# Altium schematic symbol library kmilo17pet-TI_BattMgmt.SchLib: 950 symbols (part 21 of 60)
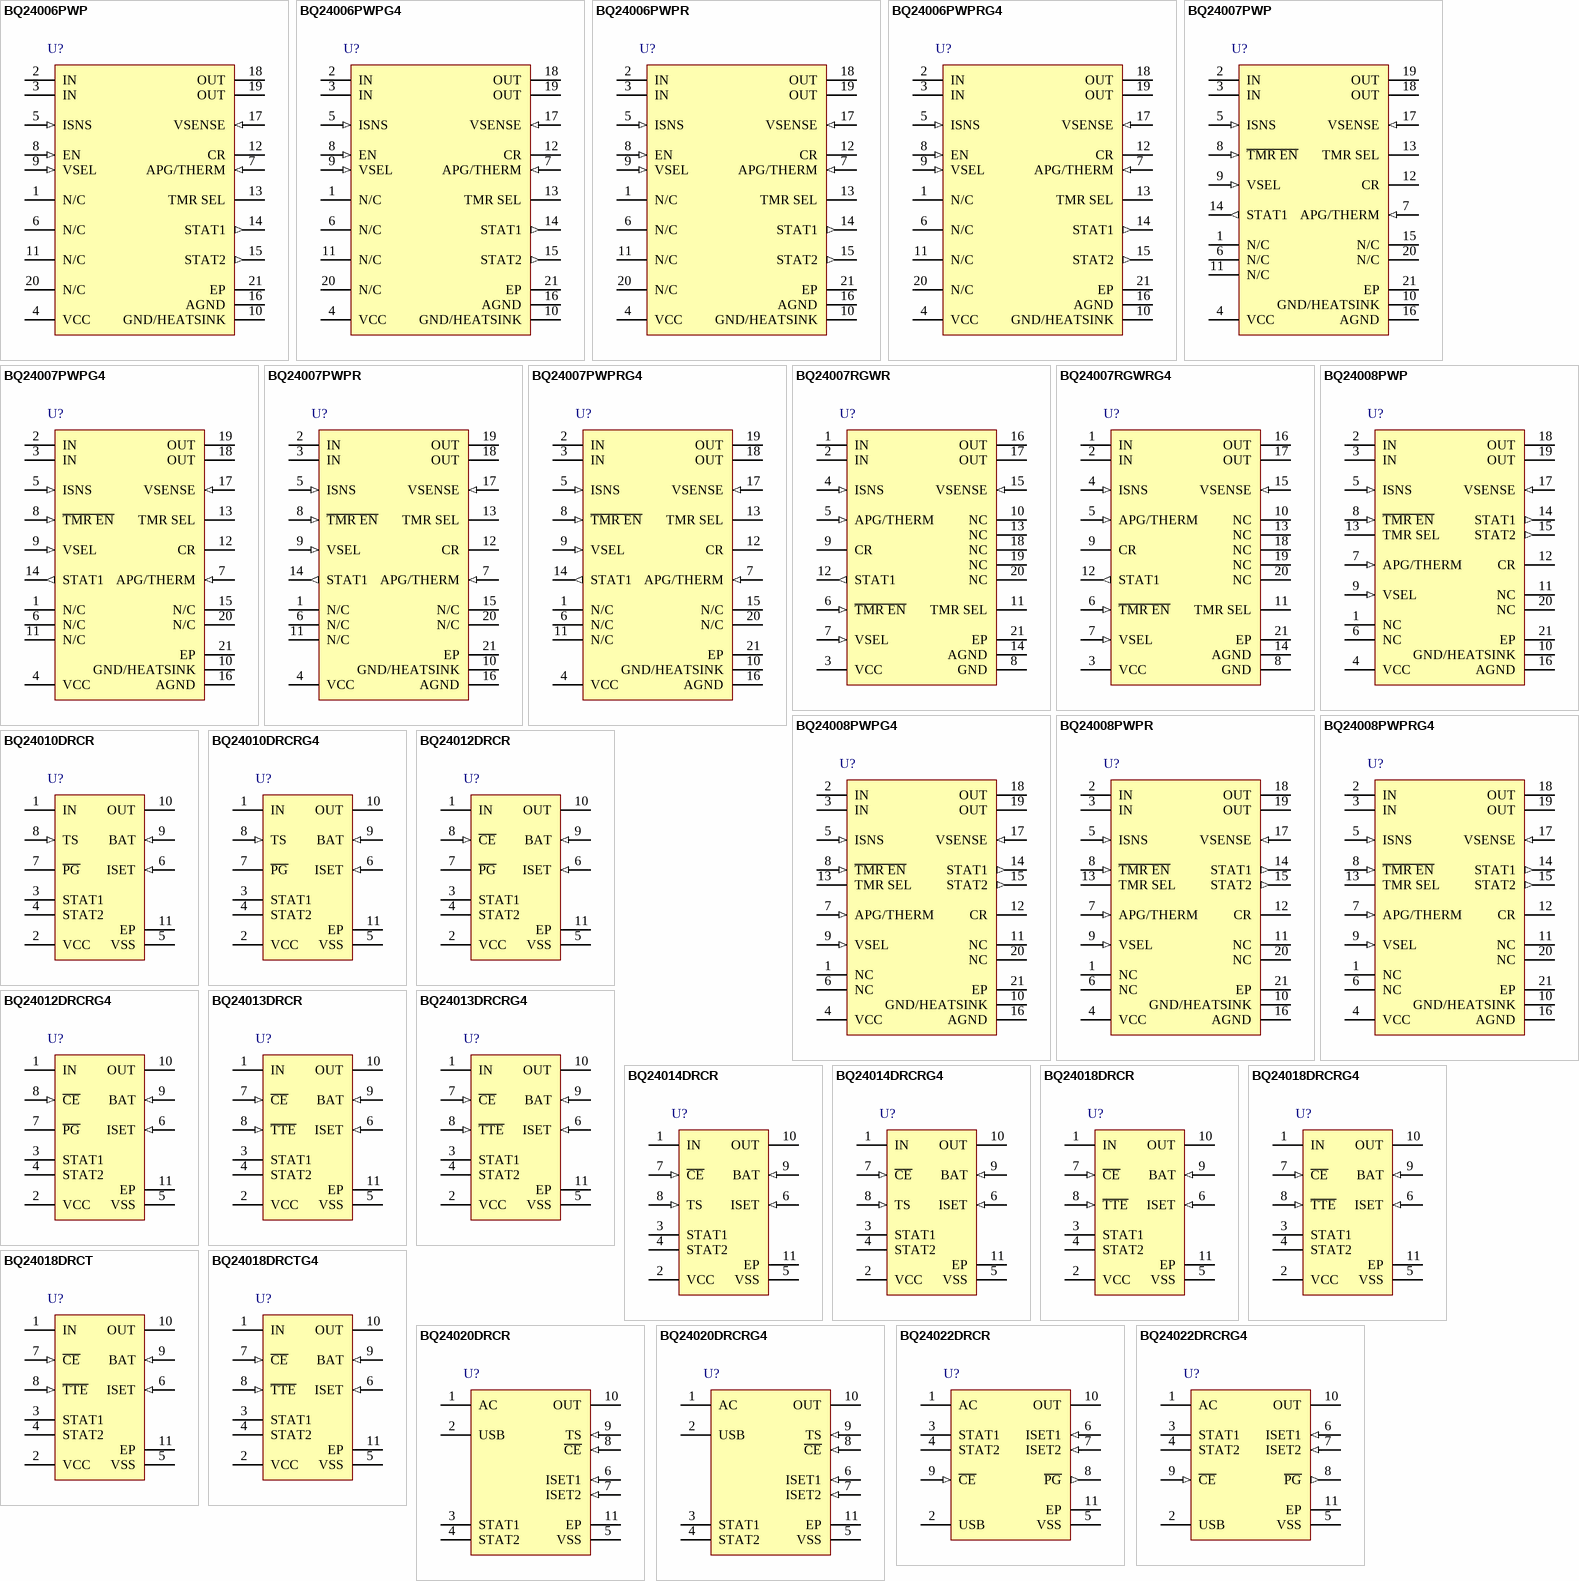
[diagram p54: symbols BQ24006PWP to BQ24022DRCRG4]

## BQ24008PWPRG4
designator U?
Linear 1-Cell Li-Ion Battery Charger with Integrated FET, Bi-Color LED, 4.5 V, -20 to 70 degC, 20-pin HTSSOP (PWP), Green (RoHS & no Sb/Br); PartNumber: BQ24008PWPRG4; Manufacturer: Texas Instruments; Lead Acid: N; Li-Ion: Y; SubFamily: Battery Charge Management; Vin(Min)(V): 4.5; DatasheetVersion: SLUS479D; PackageVersion: revI, May-2011; PackageReference: PWP20-3005X2005TP; PackageDescription: 20-Pin PowerPAD Plastic Small Outline 6.5 x 4.4 mm Body ,0.65 mm Pitch, Exposed Pad; Supplier 1: Digi-Key; Supplier Part Number 1: BQ24008PWPRG4-ND; Supplier Part Number 3: 595-BQ24008PWPRG4; Eco-Plan: Green (RoHS & no Sb/Br); Li-Polymer: Y; NiCd: N; NiMH: N; Over Voltage Protection: N; Mounting Technology: Surface Mount; Code_JEDEC: MO-153; ComponentLink1Description: Datasheet; ComponentLink1URL: http://www.ti.com/general/docs/lit/getliterature.tsp?genericPartNumber=BQ24008&fileType=pdf
footprint PWP20-3005X2005TP_N (TSOP, 20-Leads, Body 6.5x4.4mm, Pitch 0.65mm, Thermal Pad 3.7x2.4 mm, IPC Medium Density)
footprint PWP20-3005X2005TP_L (TSOP, 20-Leads, Body 6.5x4.4mm, Pitch 0.65mm, Thermal Pad 3.7x2.4 mm, IPC High Density)
footprint PWP20-3005X2005TP_M (TSOP, 20-Leads, Body 6.5x4.4mm, Pitch 0.65mm, Thermal Pad 3.7x2.4 mm, IPC Low Density)
pins: 1 NC "No connect. These pins must be left floating.", 2 IN (power) "Input voltage. This input provides the charging voltage for the battery.", 3 IN (power) "Input voltage. This input provides the charging voltage for the battery.", 4 VCC (power) "Supply voltage.", 5 ISNS (in) "Current sense input.", 6 NC "No connect. These pins must be left floating.", 7 APG/THERM (in) "Adapter power good input/thermistor sense input.", 8 ~{TMR EN} (in) "Charge-enable  input. Active-high enable input with internal pulldown. Low-current stand-by mode active when EN is low.", 9 VSEL (in) "4.1-V or 4.2-V charge regulation selection input", 10 GND/HEATSINK (power) "Ground pin; connect to PowerPAD heat-sink layout pattern.", 11 NC "No connect. These pins must be left floating.", 12 CR "Internal regulator bypass capacitor.", 13 TMR SEL "Charge timer selection input", 14 STAT1 (out) "Status display output 1", 15 STAT2 (out) "Status display output 2 (for bq24008 only)", 16 AGND (power) "Ground pin; connect close to the negative battery terminal.", 17 VSENSE (in) "Battery voltage sense input.", 18 OUT (power) "Charge current output", 19 OUT (power) "Charge current output", 20 NC "No connect. These pins must be left floating.", 21 EP "Exposed thermal pad"

## BQ24010DRCR
designator U?
bqTINY (TM) Linear 1-Cell Li-Ion Charger with 1 A FET, AC Present and Temp Sense in QFN-10, 3 V, -40 to 85 degC, 10-pin SON (DRC), Green (RoHS & no Sb/Br); PartNumber: BQ24010DRCR; Manufacturer: Texas Instruments; Lead Acid: N; Li-Ion: Y; SubFamily: Battery Charge Management; Vin(Min)(V): 3; DatasheetVersion: SLUS530J; PackageVersion: revL, Sep-2011; PackageReference: DRC10-2400X1650TP; PackageDescription: 10-Pin Plastic Small Outline No-Lead, 3 x 3 x 1 mm Body, 0.5 mm Pitch, Exposed Pad; Supplier 1: Digi-Key; Supplier Part Number 1: 296-13714-2-ND; Supplier Part Number 3: 296-13714-6-ND; Eco-Plan: Green (RoHS & no Sb/Br); Li-Polymer: Y; NiCd: N; NiMH: N; Over Voltage Protection: N; Mounting Technology: Surface Mount; ComponentLink1Description: Datasheet; ComponentLink1URL: http://www.ti.com/general/docs/lit/getliterature.tsp?genericPartNumber=BQ24010&fileType=pdf
footprint DRC10-2400X1650TP (SON, 10-Leads, Body 3x3mm, Pitch 0.5mm, Thermal Pad 2.4x1.65mm, TI Recommended)
pins: 1 IN (power) "Charge input voltage. This input must be tied to the VCC pin.", 2 VCC (power) "VCC supply input", 3 STAT1 (oc) "Charge status output 1 (open collector)", 4 STAT2 (oc) "Charge status output 2 (open collector)", 5 VSS (power) "Ground input", 6 ISET (in) "Charge current set point", 7 ~{PG} (oc) "Power good status output (open collector)", 8 TS (in) "Temperature sense input", 9 BAT (in) "Battery voltage sense input", 10 OUT (power) "Charge current output", 11 EP (power) "There is an internal electrical connection between the exposed thermal pad and VSS pin of the device. The exposed thermal pad must be connected to the same potential as the Vss pin on the printed circuit board. Do not use (See Datasheet)"

## BQ24010DRCRG4
designator U?
bqTINY (TM) Linear 1-Cell Li-Ion Charger with 1 A FET, AC Present and Temp Sense in QFN-10, 3 V, -40 to 85 degC, 10-pin SON (DRC), Green (RoHS & no Sb/Br); PartNumber: BQ24010DRCRG4; Manufacturer: Texas Instruments; Lead Acid: N; Li-Ion: Y; SubFamily: Battery Charge Management; Vin(Min)(V): 3; DatasheetVersion: SLUS530J; PackageVersion: revL, Sep-2011; PackageReference: DRC10-2400X1650TP; PackageDescription: 10-Pin Plastic Small Outline No-Lead, 3 x 3 x 1 mm Body, 0.5 mm Pitch, Exposed Pad; Supplier 1: Digi-Key; Supplier Part Number 1: BQ24010DRCRG4-ND; Supplier Part Number 3: 1206835; Eco-Plan: Green (RoHS & no Sb/Br); Li-Polymer: Y; NiCd: N; NiMH: N; Over Voltage Protection: N; Mounting Technology: Surface Mount; ComponentLink1Description: Datasheet; ComponentLink1URL: http://www.ti.com/general/docs/lit/getliterature.tsp?genericPartNumber=BQ24010&fileType=pdf
footprint DRC10-2400X1650TP (SON, 10-Leads, Body 3x3mm, Pitch 0.5mm, Thermal Pad 2.4x1.65mm, TI Recommended)
pins: 1 IN (power) "Charge input voltage. This input must be tied to the VCC pin.", 2 VCC (power) "VCC supply input", 3 STAT1 (oc) "Charge status output 1 (open collector)", 4 STAT2 (oc) "Charge status output 2 (open collector)", 5 VSS (power) "Ground input", 6 ISET (in) "Charge current set point", 7 ~{PG} (oc) "Power good status output (open collector)", 8 TS (in) "Temperature sense input", 9 BAT (in) "Battery voltage sense input", 10 OUT (power) "Charge current output", 11 EP (power) "There is an internal electrical connection between the exposed thermal pad and VSS pin of the device. The exposed thermal pad must be connected to the same potential as the Vss pin on the printed circuit board. Do not use (See Datasheet)"

## BQ24012DRCR
designator U?
bqTINY (TM) Linear 1-Cell Li-Ion Charger with 1 A FET, AC Present & Charge Enable in QFN-10, 3 V, -40 to 85 degC, 10-pin SON (DRC), Green (RoHS & no Sb/Br); PartNumber: BQ24012DRCR; Manufacturer: Texas Instruments; Lead Acid: N; Li-Ion: Y; SubFamily: Battery Charge Management; Vin(Min)(V): 3; DatasheetVersion: SLUS530J; PackageVersion: revL, Sep-2011; PackageReference: DRC10-2400X1650TP; PackageDescription: 10-Pin Plastic Small Outline No-Lead, 3 x 3 x 1 mm Body, 0.5 mm Pitch, Exposed Pad; Supplier 1: Digi-Key; Supplier Part Number 1: 296-13715-2-ND; Supplier Part Number 3: 296-13715-6-ND; Eco-Plan: Green (RoHS & no Sb/Br); Li-Polymer: Y; NiCd: N; NiMH: N; Over Voltage Protection: N; Mounting Technology: Surface Mount; ComponentLink1Description: Datasheet; ComponentLink1URL: http://www.ti.com/general/docs/lit/getliterature.tsp?genericPartNumber=BQ24012&fileType=pdf
footprint DRC10-2400X1650TP (SON, 10-Leads, Body 3x3mm, Pitch 0.5mm, Thermal Pad 2.4x1.65mm, TI Recommended)
pins: 1 IN (power) "Charge input voltage. This input must be tied to the VCC pin.", 2 VCC (power) "VCC supply input", 3 STAT1 (oc) "Charge status output 1 (open collector)", 4 STAT2 (oc) "Charge status output 2 (open collector)", 5 VSS (power) "Ground input", 6 ISET (in) "Charge current set point", 7 ~{PG} (hiz) "Power good status output (open collector)", 8 ~{CE} (in) "Charge enable input (active low)", 9 BAT (in) "Battery voltage sense input", 10 OUT (power) "Charge current output", 11 EP (power) "There is an internal electrical connection between the exposed thermal pad and VSS pin of the device. The exposed thermal pad must be connected to the same potential as the Vss pin on the printed circuit board. Do not use (See Datasheet)"

## BQ24012DRCRG4
designator U?
bqTINY (TM) Linear 1-Cell Li-Ion Charger with 1 A FET, AC Present & Charge Enable in QFN-10, 3 V, -40 to 85 degC, 10-pin SON (DRC), Green (RoHS & no Sb/Br); PartNumber: BQ24012DRCRG4; Manufacturer: Texas Instruments; Lead Acid: N; Li-Ion: Y; SubFamily: Battery Charge Management; Vin(Min)(V): 3; DatasheetVersion: SLUS530J; PackageVersion: revL, Sep-2011; PackageReference: DRC10-2400X1650TP; PackageDescription: 10-Pin Plastic Small Outline No-Lead, 3 x 3 x 1 mm Body, 0.5 mm Pitch, Exposed Pad; Supplier 1: Digi-Key; Supplier Part Number 1: BQ24012DRCRG4-ND; Supplier Part Number 3: 595-BQ24012DRCRG4; Eco-Plan: Green (RoHS & no Sb/Br); Li-Polymer: Y; NiCd: N; NiMH: N; Over Voltage Protection: N; Mounting Technology: Surface Mount; ComponentLink1Description: Datasheet; ComponentLink1URL: http://www.ti.com/general/docs/lit/getliterature.tsp?genericPartNumber=BQ24012&fileType=pdf
footprint DRC10-2400X1650TP (SON, 10-Leads, Body 3x3mm, Pitch 0.5mm, Thermal Pad 2.4x1.65mm, TI Recommended)
pins: 1 IN (power) "Charge input voltage. This input must be tied to the VCC pin.", 2 VCC (power) "VCC supply input", 3 STAT1 (oc) "Charge status output 1 (open collector)", 4 STAT2 (oc) "Charge status output 2 (open collector)", 5 VSS (power) "Ground input", 6 ISET (in) "Charge current set point", 7 ~{PG} (hiz) "Power good status output (open collector)", 8 ~{CE} (in) "Charge enable input (active low)", 9 BAT (in) "Battery voltage sense input", 10 OUT (power) "Charge current output", 11 EP (power) "There is an internal electrical connection between the exposed thermal pad and VSS pin of the device. The exposed thermal pad must be connected to the same potential as the Vss pin on the printed circuit board. Do not use (See Datasheet)"

## BQ24013DRCR
designator U?
bqTINY (TM) Linear 1-Cell Li-Ion Charger with 1 A FET, Charge Enable & Term Enable in QFN-10, 3 V, -40 to 85 degC, 10-pin SON (DRC), Green (RoHS & no Sb/Br); PartNumber: BQ24013DRCR; Manufacturer: Texas Instruments; Lead Acid: N; Li-Ion: Y; SubFamily: Battery Charge Management; Vin(Min)(V): 3; DatasheetVersion: SLUS530J; PackageVersion: revL, Sep-2011; PackageReference: DRC10-2400X1650TP; PackageDescription: 10-Pin Plastic Small Outline No-Lead, 3 x 3 x 1 mm Body, 0.5 mm Pitch, Exposed Pad; Supplier 1: Digi-Key; Supplier Part Number 1: 296-13716-2-ND; Supplier Part Number 3: 296-13716-6-ND; Eco-Plan: Green (RoHS & no Sb/Br); Li-Polymer: Y; NiCd: N; NiMH: N; Over Voltage Protection: N; Mounting Technology: Surface Mount; ComponentLink1Description: Datasheet; ComponentLink1URL: http://www.ti.com/general/docs/lit/getliterature.tsp?genericPartNumber=BQ24013&fileType=pdf
footprint DRC10-2400X1650TP (SON, 10-Leads, Body 3x3mm, Pitch 0.5mm, Thermal Pad 2.4x1.65mm, TI Recommended)
pins: 1 IN (power) "Charge input voltage. This input must be tied to the VCC pin.", 2 VCC (power) "VCC supply input", 3 STAT1 (oc) "Charge status output 1 (open collector)", 4 STAT2 (oc) "Charge status output 2 (open collector)", 5 VSS (power) "Ground input", 6 ISET (in) "Charge current set point", 7 ~{CE} (in) "Charge enable input (active low)", 8 ~{TTE} (in) "Timer and termination enable input (active low)", 9 BAT (in) "Battery voltage sense input", 10 OUT (power) "Charge current output", 11 EP (power) "There is an internal electrical connection between the exposed thermal pad and VSS pin of the device. The exposed thermal pad must be connected to the same potential as the Vss pin on the printed circuit board. Do not use (See Datasheet)"

## BQ24013DRCRG4
designator U?
bqTINY (TM) Linear 1-Cell Li-Ion Charger with 1 A FET, Charge Enable & Term Enable in QFN-10, 3 V, -40 to 85 degC, 10-pin SON (DRC), Green (RoHS & no Sb/Br); PartNumber: BQ24013DRCRG4; Manufacturer: Texas Instruments; Lead Acid: N; Li-Ion: Y; SubFamily: Battery Charge Management; Vin(Min)(V): 3; DatasheetVersion: SLUS530J; PackageVersion: revL, Sep-2011; PackageReference: DRC10-2400X1650TP; PackageDescription: 10-Pin Plastic Small Outline No-Lead, 3 x 3 x 1 mm Body, 0.5 mm Pitch, Exposed Pad; Supplier 1: Digi-Key; Supplier Part Number 1: BQ24013DRCRG4-ND; Supplier Part Number 3: 595-BQ24013DRCRG4; Eco-Plan: Green (RoHS & no Sb/Br); Li-Polymer: Y; NiCd: N; NiMH: N; Over Voltage Protection: N; Mounting Technology: Surface Mount; ComponentLink1Description: Datasheet; ComponentLink1URL: http://www.ti.com/general/docs/lit/getliterature.tsp?genericPartNumber=BQ24013&fileType=pdf
footprint DRC10-2400X1650TP (SON, 10-Leads, Body 3x3mm, Pitch 0.5mm, Thermal Pad 2.4x1.65mm, TI Recommended)
pins: 1 IN (power) "Charge input voltage. This input must be tied to the VCC pin.", 2 VCC (power) "VCC supply input", 3 STAT1 (oc) "Charge status output 1 (open collector)", 4 STAT2 (oc) "Charge status output 2 (open collector)", 5 VSS (power) "Ground input", 6 ISET (in) "Charge current set point", 7 ~{CE} (in) "Charge enable input (active low)", 8 ~{TTE} (in) "Timer and termination enable input (active low)", 9 BAT (in) "Battery voltage sense input", 10 OUT (power) "Charge current output", 11 EP (power) "There is an internal electrical connection between the exposed thermal pad and VSS pin of the device. The exposed thermal pad must be connected to the same potential as the Vss pin on the printed circuit board. Do not use (See Datasheet)"

## BQ24014DRCR
designator U?
bqTINY(TM) Linear 1-Cell Li-Ion Charger with 1 A FET, Temp Sense & Charge Enable in QFN-10, 3 V, -40 to 85 degC, 10-pin SON (DRC), Green (RoHS & no Sb/Br); PartNumber: BQ24014DRCR; Manufacturer: Texas Instruments; Lead Acid: N; Li-Ion: Y; SubFamily: Battery Charge Management; Vin(Min)(V): 3; DatasheetVersion: SLUS530J; PackageVersion: revL, Sep-2011; PackageReference: DRC10-2400X1650TP; PackageDescription: 10-Pin Plastic Small Outline No-Lead, 3 x 3 x 1 mm Body, 0.5 mm Pitch, Exposed Pad; Supplier 1: Digi-Key; Supplier Part Number 1: 296-18392-2-ND; Supplier Part Number 3: 296-18392-6-ND; Eco-Plan: Green (RoHS & no Sb/Br); Li-Polymer: Y; NiCd: N; NiMH: N; Over Voltage Protection: N; Mounting Technology: Surface Mount; ComponentLink1Description: Datasheet; ComponentLink1URL: http://www.ti.com/general/docs/lit/getliterature.tsp?genericPartNumber=BQ24014&fileType=pdf
footprint DRC10-2400X1650TP (SON, 10-Leads, Body 3x3mm, Pitch 0.5mm, Thermal Pad 2.4x1.65mm, TI Recommended)
pins: 1 IN (power) "Charge input voltage. This input must be tied to the VCC pin.", 2 VCC (power) "VCC supply input", 3 STAT1 (oc) "Charge status output 1 (open collector)", 4 STAT2 (oc) "Charge status output 2 (open collector)", 5 VSS (power) "Ground input", 6 ISET (in) "Charge current set point", 7 ~{CE} (in) "Charge enable input (active low)", 8 TS (in) "Temperature sense input", 9 BAT (in) "Battery voltage sense input", 10 OUT (power) "Charge current output", 11 EP (power) "There is an internal electrical connection between the exposed thermal pad and VSS pin of the device. The exposed thermal pad must be connected to the same potential as the Vss pin on the printed circuit board. Do not use (See Datasheet)"

## BQ24014DRCRG4
designator U?
bqTINY(TM) Linear 1-Cell Li-Ion Charger with 1 A FET, Temp Sense & Charge Enable in QFN-10, 3 V, -40 to 85 degC, 10-pin SON (DRC), Green (RoHS & no Sb/Br); PartNumber: BQ24014DRCRG4; Manufacturer: Texas Instruments; Lead Acid: N; Li-Ion: Y; SubFamily: Battery Charge Management; Vin(Min)(V): 3; DatasheetVersion: SLUS530J; PackageVersion: revL, Sep-2011; PackageReference: DRC10-2400X1650TP; PackageDescription: 10-Pin Plastic Small Outline No-Lead, 3 x 3 x 1 mm Body, 0.5 mm Pitch, Exposed Pad; Supplier 1: Digi-Key; Supplier Part Number 1: BQ24014DRCRG4-ND; Supplier Part Number 3: 595-BQ24014DRCRG4; Eco-Plan: Green (RoHS & no Sb/Br); Li-Polymer: Y; NiCd: N; NiMH: N; Over Voltage Protection: N; Mounting Technology: Surface Mount; ComponentLink1Description: Datasheet; ComponentLink1URL: http://www.ti.com/general/docs/lit/getliterature.tsp?genericPartNumber=BQ24014&fileType=pdf
footprint DRC10-2400X1650TP (SON, 10-Leads, Body 3x3mm, Pitch 0.5mm, Thermal Pad 2.4x1.65mm, TI Recommended)
pins: 1 IN (power) "Charge input voltage. This input must be tied to the VCC pin.", 2 VCC (power) "VCC supply input", 3 STAT1 (oc) "Charge status output 1 (open collector)", 4 STAT2 (oc) "Charge status output 2 (open collector)", 5 VSS (power) "Ground input", 6 ISET (in) "Charge current set point", 7 ~{CE} (in) "Charge enable input (active low)", 8 TS (in) "Temperature sense input", 9 BAT (in) "Battery voltage sense input", 10 OUT (power) "Charge current output", 11 EP (power) "There is an internal electrical connection between the exposed thermal pad and VSS pin of the device. The exposed thermal pad must be connected to the same potential as the Vss pin on the printed circuit board. Do not use (See Datasheet)"

## BQ24018DRCR
designator U?
Single Chip Li-Ion Charge Management IC for Handheld Applications (bqTINY), 3 V, -40 to 125 degC, 10-pin SON (DRC), Green (RoHS & no Sb/Br); PartNumber: BQ24018DRCR; Manufacturer: Texas Instruments; Lead Acid: N; Li-Ion: Y; SubFamily: Battery Charge Management; Vin(Min)(V): 3; DatasheetVersion: SLUS530J; PackageVersion: revL, Sep-2011; PackageReference: DRC10-2400X1650TP; PackageDescription: 10-Pin Plastic Small Outline No-Lead, 3 x 3 x 1 mm Body, 0.5 mm Pitch, Exposed Pad; Supplier 1: Digi-Key; Supplier Part Number 1: 296-22086-2-ND; Supplier Part Number 3: 296-22086-6-ND; Eco-Plan: Green (RoHS & no Sb/Br); Li-Polymer: Y; NiCd: N; NiMH: N; Over Voltage Protection: N; Mounting Technology: Surface Mount; ComponentLink1Description: Datasheet; ComponentLink1URL: http://www.ti.com/general/docs/lit/getliterature.tsp?genericPartNumber=BQ24018&fileType=pdf
footprint DRC10-2400X1650TP (SON, 10-Leads, Body 3x3mm, Pitch 0.5mm, Thermal Pad 2.4x1.65mm, TI Recommended)
pins: 1 IN (power) "Charge input voltage. This input must be tied to the VCC pin.", 2 VCC (power) "VCC supply input", 3 STAT1 (oc) "Charge status output 1 (open collector)", 4 STAT2 (oc) "Charge status output 2 (open collector)", 5 VSS (power) "Ground input", 6 ISET (in) "Charge current set point", 7 ~{CE} (in) "Charge enable input (active low)", 8 ~{TTE} (in) "Timer and termination enable input (active low)", 9 BAT (in) "Battery voltage sense input", 10 OUT (power) "Charge current output", 11 EP (power) "There is an internal electrical connection between the exposed thermal pad and VSS pin of the device. The exposed thermal pad must be connected to the same potential as the Vss pin on the printed circuit board. Do not use (See Datasheet)"

## BQ24018DRCRG4
designator U?
Single Chip Li-Ion Charge Management IC for Handheld Applications (bqTINY), 3 V, -40 to 125 degC, 10-pin SON (DRC), Green (RoHS & no Sb/Br); PartNumber: BQ24018DRCRG4; Manufacturer: Texas Instruments; Lead Acid: N; Li-Ion: Y; SubFamily: Battery Charge Management; Vin(Min)(V): 3; DatasheetVersion: SLUS530J; PackageVersion: revL, Sep-2011; PackageReference: DRC10-2400X1650TP; PackageDescription: 10-Pin Plastic Small Outline No-Lead, 3 x 3 x 1 mm Body, 0.5 mm Pitch, Exposed Pad; Supplier 1: Digi-Key; Supplier Part Number 1: BQ24018DRCRG4-ND; Supplier Part Number 3: 595-BQ24018DRCRG4; Eco-Plan: Green (RoHS & no Sb/Br); Li-Polymer: Y; NiCd: N; NiMH: N; Over Voltage Protection: N; Mounting Technology: Surface Mount; ComponentLink1Description: Datasheet; ComponentLink1URL: http://www.ti.com/general/docs/lit/getliterature.tsp?genericPartNumber=BQ24018&fileType=pdf
footprint DRC10-2400X1650TP (SON, 10-Leads, Body 3x3mm, Pitch 0.5mm, Thermal Pad 2.4x1.65mm, TI Recommended)
pins: 1 IN (power) "Charge input voltage. This input must be tied to the VCC pin.", 2 VCC (power) "VCC supply input", 3 STAT1 (oc) "Charge status output 1 (open collector)", 4 STAT2 (oc) "Charge status output 2 (open collector)", 5 VSS (power) "Ground input", 6 ISET (in) "Charge current set point", 7 ~{CE} (in) "Charge enable input (active low)", 8 ~{TTE} (in) "Timer and termination enable input (active low)", 9 BAT (in) "Battery voltage sense input", 10 OUT (power) "Charge current output", 11 EP (power) "There is an internal electrical connection between the exposed thermal pad and VSS pin of the device. The exposed thermal pad must be connected to the same potential as the Vss pin on the printed circuit board. Do not use (See Datasheet)"

## BQ24018DRCT
designator U?
Single Chip Li-Ion Charge Management IC for Handheld Applications (bqTINY), 3 V, -40 to 125 degC, 10-pin SON (DRC), Green (RoHS & no Sb/Br); PartNumber: BQ24018DRCT; Manufacturer: Texas Instruments; Lead Acid: N; Li-Ion: Y; SubFamily: Battery Charge Management; Vin(Min)(V): 3; DatasheetVersion: SLUS530J; PackageVersion: revL, Sep-2011; PackageReference: DRC10-2400X1650TP; PackageDescription: 10-Pin Plastic Small Outline No-Lead, 3 x 3 x 1 mm Body, 0.5 mm Pitch, Exposed Pad; Supplier 1: Digi-Key; Supplier Part Number 1: BQ24018DRCT-ND; Supplier Part Number 3: 33P6574; Eco-Plan: Green (RoHS & no Sb/Br); Li-Polymer: Y; NiCd: N; NiMH: N; Over Voltage Protection: N; Mounting Technology: Surface Mount; ComponentLink1Description: Datasheet; ComponentLink1URL: http://www.ti.com/general/docs/lit/getliterature.tsp?genericPartNumber=BQ24018&fileType=pdf
footprint DRC10-2400X1650TP (SON, 10-Leads, Body 3x3mm, Pitch 0.5mm, Thermal Pad 2.4x1.65mm, TI Recommended)
pins: 1 IN (power) "Charge input voltage. This input must be tied to the VCC pin.", 2 VCC (power) "VCC supply input", 3 STAT1 (oc) "Charge status output 1 (open collector)", 4 STAT2 (oc) "Charge status output 2 (open collector)", 5 VSS (power) "Ground input", 6 ISET (in) "Charge current set point", 7 ~{CE} (in) "Charge enable input (active low)", 8 ~{TTE} (in) "Timer and termination enable input (active low)", 9 BAT (in) "Battery voltage sense input", 10 OUT (power) "Charge current output", 11 EP (power) "There is an internal electrical connection between the exposed thermal pad and VSS pin of the device. The exposed thermal pad must be connected to the same potential as the Vss pin on the printed circuit board. Do not use (See Datasheet)"

## BQ24018DRCTG4
designator U?
Single Chip Li-Ion Charge Management IC for Handheld Applications (bqTINY), 3 V, -40 to 125 degC, 10-pin SON (DRC), Green (RoHS & no Sb/Br); PartNumber: BQ24018DRCTG4; Manufacturer: Texas Instruments; Lead Acid: N; Li-Ion: Y; SubFamily: Battery Charge Management; Vin(Min)(V): 3; DatasheetVersion: SLUS530J; PackageVersion: revL, Sep-2011; PackageReference: DRC10-2400X1650TP; PackageDescription: 10-Pin Plastic Small Outline No-Lead, 3 x 3 x 1 mm Body, 0.5 mm Pitch, Exposed Pad; Supplier 1: Digi-Key; Supplier Part Number 1: BQ24018DRCTG4-ND; Supplier Part Number 3: 595-BQ24018DRCTG4; Eco-Plan: Green (RoHS & no Sb/Br); Li-Polymer: Y; NiCd: N; NiMH: N; Over Voltage Protection: N; Mounting Technology: Surface Mount; ComponentLink1Description: Datasheet; ComponentLink1URL: http://www.ti.com/general/docs/lit/getliterature.tsp?genericPartNumber=BQ24018&fileType=pdf
footprint DRC10-2400X1650TP (SON, 10-Leads, Body 3x3mm, Pitch 0.5mm, Thermal Pad 2.4x1.65mm, TI Recommended)
pins: 1 IN (power) "Charge input voltage. This input must be tied to the VCC pin.", 2 VCC (power) "VCC supply input", 3 STAT1 (oc) "Charge status output 1 (open collector)", 4 STAT2 (oc) "Charge status output 2 (open collector)", 5 VSS (power) "Ground input", 6 ISET (in) "Charge current set point", 7 ~{CE} (in) "Charge enable input (active low)", 8 ~{TTE} (in) "Timer and termination enable input (active low)", 9 BAT (in) "Battery voltage sense input", 10 OUT (power) "Charge current output", 11 EP (power) "There is an internal electrical connection between the exposed thermal pad and VSS pin of the device. The exposed thermal pad must be connected to the same potential as the Vss pin on the printed circuit board. Do not use (See Datasheet)"

## BQ24020DRCR
designator U?
bqTINY-II Dual Input USB / AC Adpater 1-Cell Li-Ion Charger with Charge Enable & Temp Sense in QFN-10, 4.5 V, -40 to 125 degC, 10-pin SON (DRC), Green (RoHS & no Sb/Br); PartNumber: BQ24020DRCR; Manufacturer: Texas Instruments; Lead Acid: N; Li-Ion: Y; SubFamily: Battery Charge Management; Vin(Min)(V): 4.5; DatasheetVersion: SLUS549E; PackageVersion: revL, Sep-2011; PackageReference: DRC10-2400X1650TP; PackageDescription: 10-Pin Plastic Small Outline No-Lead, 3 x 3 x 1 mm Body, 0.5 mm Pitch, Exposed Pad; Supplier 1: Digi-Key; Supplier Part Number 1: 296-14072-2-ND; Supplier Part Number 3: 296-14072-6-ND; Eco-Plan: Green (RoHS & no Sb/Br); Li-Polymer: Y; NiCd: N; NiMH: N; Over Voltage Protection: N; Mounting Technology: Surface Mount; ComponentLink1Description: Datasheet; ComponentLink1URL: http://www.ti.com/general/docs/lit/getliterature.tsp?genericPartNumber=BQ24020&fileType=pdf
footprint DRC10-2400X1650TP (SON, 10-Leads, Body 3x3mm, Pitch 0.5mm, Thermal Pad 2.4x1.65mm, TI Recommended)
pins: 1 AC (power) "AC charge input voltage", 2 USB (power) "USB charge input voltage", 3 STAT1 (oc) "Charge status output 1 (open-drain)", 4 STAT2 (oc) "Charge status output 2 (open-drain)", 5 VSS (power) "Ground input", 6 ISET1 (in) "Charge current set point for AC input and precharge ande taper set point for both AC and USB", 7 ISET2 (in) "Charge current set point for USB port (high=500 mA, low=100 mA, hi-z = disable USB charge)", 8 ~{CE} (in) "Charge enable input (active low)", 9 TS (in) "Temperature sense input", 10 OUT (power) "Charge current output", 11 EP (power) "There is an internal electrical connection between the exposed thermal pad and VSS pin of the device. The exposed thermal pad must be connected to the same potential as the VSS pin on the printed circuit board. Do not use (See Datasheet)"

## BQ24020DRCRG4
designator U?
bqTINY-II Dual Input USB / AC Adpater 1-Cell Li-Ion Charger with Charge Enable & Temp Sense in QFN-10, 4.5 V, -40 to 125 degC, 10-pin SON (DRC), Green (RoHS & no Sb/Br); PartNumber: BQ24020DRCRG4; Manufacturer: Texas Instruments; Lead Acid: N; Li-Ion: Y; SubFamily: Battery Charge Management; Vin(Min)(V): 4.5; DatasheetVersion: SLUS549E; PackageVersion: revL, Sep-2011; PackageReference: DRC10-2400X1650TP; PackageDescription: 10-Pin Plastic Small Outline No-Lead, 3 x 3 x 1 mm Body, 0.5 mm Pitch, Exposed Pad; Supplier 1: Digi-Key; Supplier Part Number 1: BQ24020DRCRG4-ND; Supplier Part Number 3: 595-BQ24020DRCRG4; Eco-Plan: Green (RoHS & no Sb/Br); Li-Polymer: Y; NiCd: N; NiMH: N; Over Voltage Protection: N; Mounting Technology: Surface Mount; ComponentLink1Description: Datasheet; ComponentLink1URL: http://www.ti.com/general/docs/lit/getliterature.tsp?genericPartNumber=BQ24020&fileType=pdf
footprint DRC10-2400X1650TP (SON, 10-Leads, Body 3x3mm, Pitch 0.5mm, Thermal Pad 2.4x1.65mm, TI Recommended)
pins: 1 AC (power) "AC charge input voltage", 2 USB (power) "USB charge input voltage", 3 STAT1 (oc) "Charge status output 1 (open-drain)", 4 STAT2 (oc) "Charge status output 2 (open-drain)", 5 VSS (power) "Ground input", 6 ISET1 (in) "Charge current set point for AC input and precharge ande taper set point for both AC and USB", 7 ISET2 (in) "Charge current set point for USB port (high=500 mA, low=100 mA, hi-z = disable USB charge)", 8 ~{CE} (in) "Charge enable input (active low)", 9 TS (in) "Temperature sense input", 10 OUT (power) "Charge current output", 11 EP (power) "There is an internal electrical connection between the exposed thermal pad and VSS pin of the device. The exposed thermal pad must be connected to the same potential as the VSS pin on the printed circuit board. Do not use (See Datasheet)"

## BQ24022DRCR
designator U?
bqTINY-II Dual Input USB / AC Adpater 1-Cell Li-Ion Charger with Charge Enable & Power Good in QFN-10, 4.5 V, -40 to 125 degC, 10-pin SON (DRC), Green (RoHS & no Sb/Br); PartNumber: BQ24022DRCR; Manufacturer: Texas Instruments; Lead Acid: N; Li-Ion: Y; SubFamily: Battery Charge Management; Vin(Min)(V): 4.5; DatasheetVersion: SLUS549E; PackageVersion: revL, Sep-2011; PackageReference: DRC10-2400X1650TP; PackageDescription: 10-Pin Plastic Small Outline No-Lead, 3 x 3 x 1 mm Body, 0.5 mm Pitch, Exposed Pad; Supplier 1: Digi-Key; Supplier Part Number 1: 296-14397-2-ND; Supplier Part Number 3: 296-14397-6-ND; Eco-Plan: Green (RoHS & no Sb/Br); Li-Polymer: Y; NiCd: N; NiMH: N; Over Voltage Protection: N; Mounting Technology: Surface Mount; ComponentLink1Description: Datasheet; ComponentLink1URL: http://www.ti.com/general/docs/lit/getliterature.tsp?genericPartNumber=BQ24022&fileType=pdf
footprint DRC10-2400X1650TP (SON, 10-Leads, Body 3x3mm, Pitch 0.5mm, Thermal Pad 2.4x1.65mm, TI Recommended)
pins: 1 AC (power) "AC charge input voltage", 2 USB (power) "USB charge input voltage", 3 STAT1 (oc) "Charge status output 1 (open-drain)", 4 STAT2 (oc) "Charge status output 2 (open-drain)", 5 VSS (power) "Ground input", 6 ISET1 (in) "Charge current set point for AC input and precharge ande taper set point for both AC and USB", 7 ISET2 (in) "Charge current set point for USB port (high=500 mA, low=100 mA, hi-z = disable USB charge)", 8 ~{PG} (out) "powergood status output (active low)", 9 ~{CE} (in) "Charge enable input (active low)", 10 OUT (power) "Charge current output", 11 EP (power) "There is an internal electrical connection between the exposed thermal pad and VSS pin of the device. The exposed thermal pad must be connected to the same potential as the VSS pin on the printed circuit board. Do not use (See Datasheet)"

## BQ24022DRCRG4
designator U?
bqTINY-II Dual Input USB / AC Adpater 1-Cell Li-Ion Charger with Charge Enable & Power Good in QFN-10, 4.5 V, -40 to 125 degC, 10-pin SON (DRC), Green (RoHS & no Sb/Br); PartNumber: BQ24022DRCRG4; Manufacturer: Texas Instruments; Lead Acid: N; Li-Ion: Y; SubFamily: Battery Charge Management; Vin(Min)(V): 4.5; DatasheetVersion: SLUS549E; PackageVersion: revL, Sep-2011; PackageReference: DRC10-2400X1650TP; PackageDescription: 10-Pin Plastic Small Outline No-Lead, 3 x 3 x 1 mm Body, 0.5 mm Pitch, Exposed Pad; Supplier 1: Digi-Key; Supplier Part Number 1: BQ24022DRCRG4-ND; Supplier Part Number 3: 595-BQ24022DRCRG4; Eco-Plan: Green (RoHS & no Sb/Br); Li-Polymer: Y; NiCd: N; NiMH: N; Over Voltage Protection: N; Mounting Technology: Surface Mount; ComponentLink1Description: Datasheet; ComponentLink1URL: http://www.ti.com/general/docs/lit/getliterature.tsp?genericPartNumber=BQ24022&fileType=pdf
footprint DRC10-2400X1650TP (SON, 10-Leads, Body 3x3mm, Pitch 0.5mm, Thermal Pad 2.4x1.65mm, TI Recommended)
pins: 1 AC (power) "AC charge input voltage", 2 USB (power) "USB charge input voltage", 3 STAT1 (oc) "Charge status output 1 (open-drain)", 4 STAT2 (oc) "Charge status output 2 (open-drain)", 5 VSS (power) "Ground input", 6 ISET1 (in) "Charge current set point for AC input and precharge ande taper set point for both AC and USB", 7 ISET2 (in) "Charge current set point for USB port (high=500 mA, low=100 mA, hi-z = disable USB charge)", 8 ~{PG} (out) "powergood status output (active low)", 9 ~{CE} (in) "Charge enable input (active low)", 10 OUT (power) "Charge current output", 11 EP (power) "There is an internal electrical connection between the exposed thermal pad and VSS pin of the device. The exposed thermal pad must be connected to the same potential as the VSS pin on the printed circuit board. Do not use (See Datasheet)"

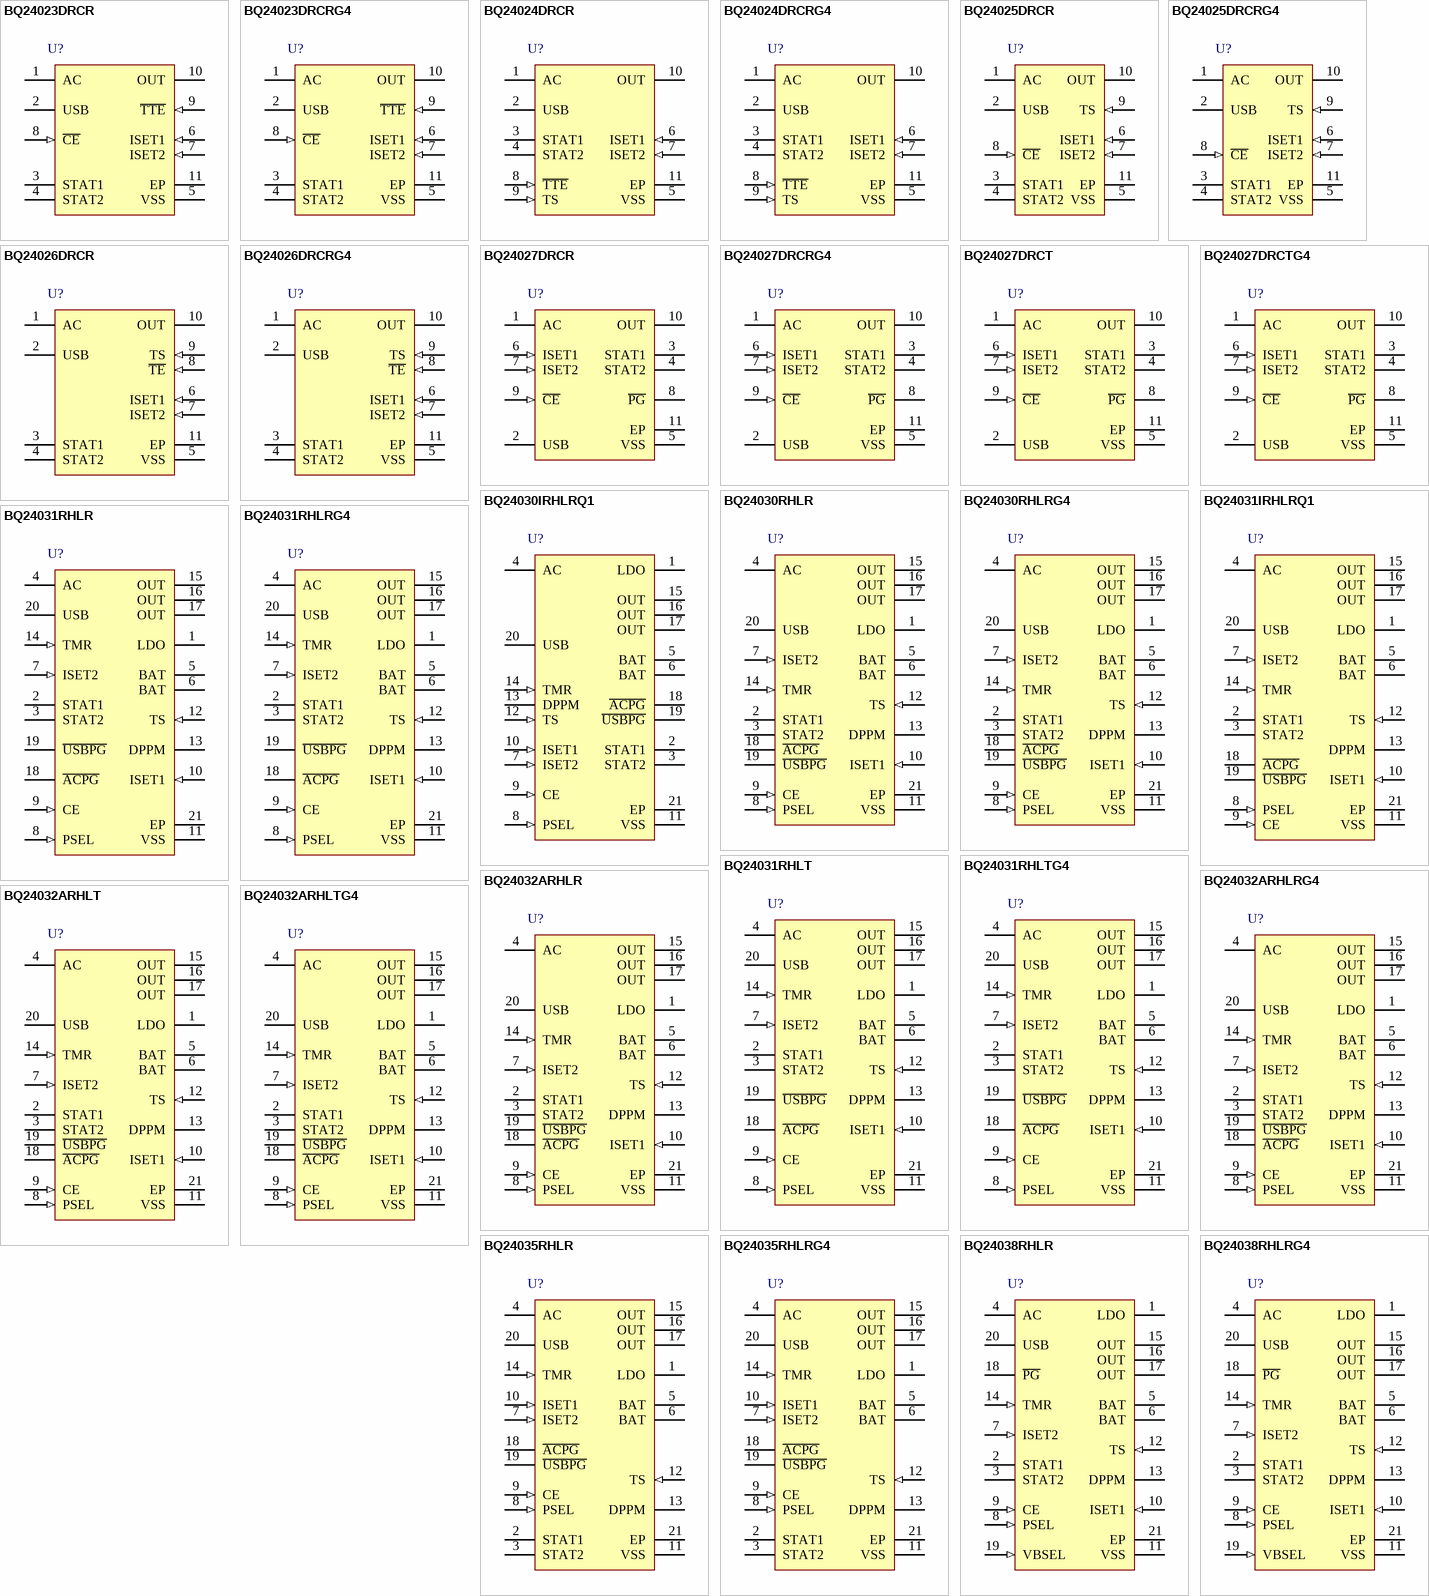
[diagram p13: symbols BQ24023DRCR to BQ24038RHLRG4]

## BQ24023DRCR
designator U?
bqTINY-II Dual Input USB / AC Adpater 1-Cell Li-Ion Charger with Charge Enable, Term Enable in QFN-10, 4.5 V, -40 to 85 degC, 10-pin SON (DRC), Green (RoHS & no Sb/Br); PartNumber: BQ24023DRCR; Manufacturer: Texas Instruments; Lead Acid: N; Li-Ion: Y; SubFamily: Battery Charge Management; Vin(Min)(V): 4.5; DatasheetVersion: SLUS549E; PackageVersion: revL, Sep-2011; PackageReference: DRC10-2400X1650TP; PackageDescription: 10-Pin Plastic Small Outline No-Lead, 3 x 3 x 1 mm Body, 0.5 mm Pitch, Exposed Pad; Supplier 1: Digi-Key; Supplier Part Number 1: 296-15182-2-ND; Supplier Part Number 3: 296-15182-6-ND; Eco-Plan: Green (RoHS & no Sb/Br); Li-Polymer: Y; NiCd: N; NiMH: N; Over Voltage Protection: N; Mounting Technology: Surface Mount; ComponentLink1Description: Datasheet; ComponentLink1URL: http://www.ti.com/general/docs/lit/getliterature.tsp?genericPartNumber=BQ24023&fileType=pdf
footprint DRC10-2400X1650TP (SON, 10-Leads, Body 3x3mm, Pitch 0.5mm, Thermal Pad 2.4x1.65mm, TI Recommended)
pins: 1 AC (power) "AC charge input voltage", 2 USB (power) "USB charge input voltage", 3 STAT1 (oc) "Charge status output 1 (open-drain)", 4 STAT2 (oc) "Charge status output 2 (open-drain)", 5 VSS (power) "Ground input", 6 ISET1 (in) "Charge current set point for AC input and precharge ande taper set point for both AC and USB", 7 ISET2 (in) "Charge current set point for USB port (high=500 mA, low=100 mA, hi-z = disable USB charge)", 8 ~{CE} (in) "Charge enable input (active low)", 9 ~{TTE} (in) "Timer and termination enable input (active low)", 10 OUT (power) "Charge current output", 11 EP (power) "There is an internal electrical connection between the exposed thermal pad and VSS pin of the device. The exposed thermal pad must be connected to the same potential as the VSS pin on the printed circuit board. Do not use (See Datasheet)"

## BQ24023DRCRG4
designator U?
bqTINY-II Dual Input USB / AC Adpater 1-Cell Li-Ion Charger with Charge Enable, Term Enable in QFN-10, 4.5 V, -40 to 85 degC, 10-pin SON (DRC), Green (RoHS & no Sb/Br); PartNumber: BQ24023DRCRG4; Manufacturer: Texas Instruments; Lead Acid: N; Li-Ion: Y; SubFamily: Battery Charge Management; Vin(Min)(V): 4.5; DatasheetVersion: SLUS549E; PackageVersion: revL, Sep-2011; PackageReference: DRC10-2400X1650TP; PackageDescription: 10-Pin Plastic Small Outline No-Lead, 3 x 3 x 1 mm Body, 0.5 mm Pitch, Exposed Pad; Supplier 1: Digi-Key; Supplier Part Number 1: BQ24023DRCRG4-ND; Supplier Part Number 3: 595-BQ24023DRCRG4; Eco-Plan: Green (RoHS & no Sb/Br); Li-Polymer: Y; NiCd: N; NiMH: N; Over Voltage Protection: N; Mounting Technology: Surface Mount; ComponentLink1Description: Datasheet; ComponentLink1URL: http://www.ti.com/general/docs/lit/getliterature.tsp?genericPartNumber=BQ24023&fileType=pdf
footprint DRC10-2400X1650TP (SON, 10-Leads, Body 3x3mm, Pitch 0.5mm, Thermal Pad 2.4x1.65mm, TI Recommended)
pins: 1 AC (power) "AC charge input voltage", 2 USB (power) "USB charge input voltage", 3 STAT1 (oc) "Charge status output 1 (open-drain)", 4 STAT2 (oc) "Charge status output 2 (open-drain)", 5 VSS (power) "Ground input", 6 ISET1 (in) "Charge current set point for AC input and precharge ande taper set point for both AC and USB", 7 ISET2 (in) "Charge current set point for USB port (high=500 mA, low=100 mA, hi-z = disable USB charge)", 8 ~{CE} (in) "Charge enable input (active low)", 9 ~{TTE} (in) "Timer and termination enable input (active low)", 10 OUT (power) "Charge current output", 11 EP (power) "There is an internal electrical connection between the exposed thermal pad and VSS pin of the device. The exposed thermal pad must be connected to the same potential as the VSS pin on the printed circuit board. Do not use (See Datasheet)"

## BQ24024DRCR
designator U?
bqTINY-II Dual Input USB / AC Adpater 1-Cell Li-Ion Charger with Term Enable & Temp Sense in QFN-10, 4.5 V, -40 to 125 degC, 10-pin SON (DRC), Green (RoHS & no Sb/Br); PartNumber: BQ24024DRCR; Manufacturer: Texas Instruments; Lead Acid: N; Li-Ion: Y; SubFamily: Battery Charge Management; Vin(Min)(V): 4.5; DatasheetVersion: SLUS549E; PackageVersion: revL, Sep-2011; PackageReference: DRC10-2400X1650TP; PackageDescription: 10-Pin Plastic Small Outline No-Lead, 3 x 3 x 1 mm Body, 0.5 mm Pitch, Exposed Pad; Supplier 1: Digi-Key; Supplier Part Number 1: 296-17054-2-ND; Supplier Part Number 3: 296-17054-6-ND; Eco-Plan: Green (RoHS & no Sb/Br); Li-Polymer: Y; NiCd: N; NiMH: N; Over Voltage Protection: N; Mounting Technology: Surface Mount; ComponentLink1Description: Datasheet; ComponentLink1URL: http://www.ti.com/general/docs/lit/getliterature.tsp?genericPartNumber=BQ24024&fileType=pdf
footprint DRC10-2400X1650TP (SON, 10-Leads, Body 3x3mm, Pitch 0.5mm, Thermal Pad 2.4x1.65mm, TI Recommended)
pins: 1 AC (power) "AC charge input voltage", 2 USB (power) "USB charge input voltage", 3 STAT1 (oc) "Charge status output 1 (open-drain)", 4 STAT2 (oc) "Charge status output 2 (open-drain)", 5 VSS (power) "Ground input", 6 ISET1 (in) "Charge current set point for AC input and precharge ande taper set point for both AC and USB", 7 ISET2 (in) "Charge current set point for USB port (high=500 mA, low=100 mA, hi-z = disable USB charge)", 8 ~{TTE} (in) "Timer and termination enable input (active low)", 9 TS (in) "Temperature sense input", 10 OUT (power) "Charge current output", 11 EP (power) "There is an internal electrical connection between the exposed thermal pad and VSS pin of the device. The exposed thermal pad must be connected to the same potential as the VSS pin on the printed circuit board. Do not use (See Datasheet)"

## BQ24024DRCRG4
designator U?
bqTINY-II Dual Input USB / AC Adpater 1-Cell Li-Ion Charger with Term Enable & Temp Sense in QFN-10, 4.5 V, -40 to 125 degC, 10-pin SON (DRC), Green (RoHS & no Sb/Br); PartNumber: BQ24024DRCRG4; Manufacturer: Texas Instruments; Lead Acid: N; Li-Ion: Y; SubFamily: Battery Charge Management; Vin(Min)(V): 4.5; DatasheetVersion: SLUS549E; PackageVersion: revL, Sep-2011; PackageReference: DRC10-2400X1650TP; PackageDescription: 10-Pin Plastic Small Outline No-Lead, 3 x 3 x 1 mm Body, 0.5 mm Pitch, Exposed Pad; Supplier 1: Digi-Key; Supplier Part Number 1: BQ24024DRCRG4-ND; Supplier Part Number 3: 595-BQ24024DRCRG4; Eco-Plan: Green (RoHS & no Sb/Br); Li-Polymer: Y; NiCd: N; NiMH: N; Over Voltage Protection: N; Mounting Technology: Surface Mount; ComponentLink1Description: Datasheet; ComponentLink1URL: http://www.ti.com/general/docs/lit/getliterature.tsp?genericPartNumber=BQ24024&fileType=pdf
footprint DRC10-2400X1650TP (SON, 10-Leads, Body 3x3mm, Pitch 0.5mm, Thermal Pad 2.4x1.65mm, TI Recommended)
pins: 1 AC (power) "AC charge input voltage", 2 USB (power) "USB charge input voltage", 3 STAT1 (oc) "Charge status output 1 (open-drain)", 4 STAT2 (oc) "Charge status output 2 (open-drain)", 5 VSS (power) "Ground input", 6 ISET1 (in) "Charge current set point for AC input and precharge ande taper set point for both AC and USB", 7 ISET2 (in) "Charge current set point for USB port (high=500 mA, low=100 mA, hi-z = disable USB charge)", 8 ~{TTE} (in) "Timer and termination enable input (active low)", 9 TS (in) "Temperature sense input", 10 OUT (power) "Charge current output", 11 EP (power) "There is an internal electrical connection between the exposed thermal pad and VSS pin of the device. The exposed thermal pad must be connected to the same potential as the VSS pin on the printed circuit board. Do not use (See Datasheet)"

## BQ24025DRCR
designator U?
bqTINY-II Dual Input USB / AC Adpater 1-Cell Li-Ion Charger with Charge Enable & Temp Sense, 7 hr Timer, 4.5 V, -40 to 85 degC, 10-pin SON (DRC), Green (RoHS & no Sb/Br); PartNumber: BQ24025DRCR; Manufacturer: Texas Instruments; Lead Acid: N; SubFamily: Battery Charge Management; Vin(Min)(V): 4.5; DatasheetVersion: SLUS549E; PackageVersion: revL, Sep-2011; PackageReference: DRC10-2400X1650TP; PackageDescription: 10-Pin Plastic Small Outline No-Lead, 3 x 3 x 1 mm Body, 0.5 mm Pitch, Exposed Pad; Supplier 1: Digi-Key; Supplier Part Number 1: 296-15760-2-ND; Supplier Part Number 3: 296-15760-6-ND; Eco-Plan: Green (RoHS & no Sb/Br); Li-Ion: N; Li-Polymer: N; NiCd: N; NiMH: N; Over Voltage Protection: N; Mounting Technology: Surface Mount; ComponentLink1Description: Datasheet; ComponentLink1URL: http://www.ti.com/general/docs/lit/getliterature.tsp?genericPartNumber=BQ24025&fileType=pdf
footprint DRC10-2400X1650TP (SON, 10-Leads, Body 3x3mm, Pitch 0.5mm, Thermal Pad 2.4x1.65mm, TI Recommended)
pins: 1 AC (power) "AC charge input voltage", 2 USB (power) "USB charge input voltage", 3 STAT1 (oc) "Charge status output 1 (open-drain)", 4 STAT2 (oc) "Charge status output 2 (open-drain)", 5 VSS (power) "Ground input", 6 ISET1 (in) "Charge current set point for AC input and precharge and taper set point for both AC and USB", 7 ISET2 (in) "Charge current set point for USB port (high=500 mA, low=100 mA, hi-z = disable USB charge)", 8 ~{CE} (in) "Charge enable input (active low)", 9 TS (in) "Temperature sense input", 10 OUT (power) "Charge current output", 11 EP (power) "There is an internal electrical connection between the exposed thermal pad and VSS pin of the device. The exposed thermal pad must be connected to the same potential as the VSS pin on the printed circuit board. Do not use (See Datasheet)"

## BQ24025DRCRG4
designator U?
bqTINY-II Dual Input USB / AC Adpater 1-Cell Li-Ion Charger with Charge Enable & Temp Sense, 7 hr Timer, 4.5 V, -40 to 85 degC, 10-pin SON (DRC), Green (RoHS & no Sb/Br); PartNumber: BQ24025DRCRG4; Manufacturer: Texas Instruments; Lead Acid: N; SubFamily: Battery Charge Management; Vin(Min)(V): 4.5; DatasheetVersion: SLUS549E; PackageVersion: revL, Sep-2011; PackageReference: DRC10-2400X1650TP; PackageDescription: 10-Pin Plastic Small Outline No-Lead, 3 x 3 x 1 mm Body, 0.5 mm Pitch, Exposed Pad; Supplier 1: Digi-Key; Supplier Part Number 1: BQ24025DRCRG4-ND; Supplier Part Number 3: 595-BQ24025DRCRG4; Eco-Plan: Green (RoHS & no Sb/Br); Li-Ion: N; Li-Polymer: N; NiCd: N; NiMH: N; Over Voltage Protection: N; Mounting Technology: Surface Mount; ComponentLink1Description: Datasheet; ComponentLink1URL: http://www.ti.com/general/docs/lit/getliterature.tsp?genericPartNumber=BQ24025&fileType=pdf
footprint DRC10-2400X1650TP (SON, 10-Leads, Body 3x3mm, Pitch 0.5mm, Thermal Pad 2.4x1.65mm, TI Recommended)
pins: 1 AC (power) "AC charge input voltage", 2 USB (power) "USB charge input voltage", 3 STAT1 (oc) "Charge status output 1 (open-drain)", 4 STAT2 (oc) "Charge status output 2 (open-drain)", 5 VSS (power) "Ground input", 6 ISET1 (in) "Charge current set point for AC input and precharge and taper set point for both AC and USB", 7 ISET2 (in) "Charge current set point for USB port (high=500 mA, low=100 mA, hi-z = disable USB charge)", 8 ~{CE} (in) "Charge enable input (active low)", 9 TS (in) "Temperature sense input", 10 OUT (power) "Charge current output", 11 EP (power) "There is an internal electrical connection between the exposed thermal pad and VSS pin of the device. The exposed thermal pad must be connected to the same potential as the VSS pin on the printed circuit board. Do not use (See Datasheet)"

## BQ24026DRCR
designator U?
bqTINY-II Dual Input USB / AC Adpater 1-Cell Li-Ion Charger with Timer Enable & Temp Sense, No Taper, 4.5 V, -40 to 85 degC, 10-pin SON (DRC), Green (RoHS & no Sb/Br); PartNumber: BQ24026DRCR; Manufacturer: Texas Instruments; Lead Acid: N; Li-Ion: Y; SubFamily: Battery Charge Management; Vin(Min)(V): 4.5; DatasheetVersion: SLUS549E; PackageVersion: revL, Sep-2011; PackageReference: DRC10-2400X1650TP; PackageDescription: 10-Pin Plastic Small Outline No-Lead, 3 x 3 x 1 mm Body, 0.5 mm Pitch, Exposed Pad; Supplier 1: Digi-Key; Supplier Part Number 1: 296-17305-2-ND; Supplier Part Number 3: 296-17305-6-ND; Eco-Plan: Green (RoHS & no Sb/Br); Li-Polymer: Y; NiCd: N; NiMH: N; Over Voltage Protection: N; Mounting Technology: Surface Mount; ComponentLink1Description: Datasheet; ComponentLink1URL: http://www.ti.com/general/docs/lit/getliterature.tsp?genericPartNumber=BQ24026&fileType=pdf
footprint DRC10-2400X1650TP (SON, 10-Leads, Body 3x3mm, Pitch 0.5mm, Thermal Pad 2.4x1.65mm, TI Recommended)
pins: 1 AC (power) "AC charge input voltage", 2 USB (power) "USB charge input voltage", 3 STAT1 (oc) "Charge status output 1 (open-drain)", 4 STAT2 (oc) "Charge status output 2 (open-drain)", 5 VSS (power) "Ground input", 6 ISET1 (in) "Charge current set point for AC input and precharge ande taper set point for both AC and USB", 7 ISET2 (in) "Charge current set point for USB port (high=500 mA, low=100 mA, hi-z = disable USB charge)", 8 ~{TE} (in) "Timer enable input (active low)", 9 TS (in) "Temperature sense input", 10 OUT (power) "Charge current output", 11 EP (power) "There is an internal electrical connection between the exposed thermal pad and VSS pin of the device. The exposed thermal pad must be connected to the same potential as the VSS pin on the printed circuit board. Do not use (See Datasheet)"

## BQ24026DRCRG4
designator U?
bqTINY-II Dual Input USB / AC Adpater 1-Cell Li-Ion Charger with Timer Enable & Temp Sense, No Taper, 4.5 V, -40 to 85 degC, 10-pin SON (DRC), Green (RoHS & no Sb/Br); PartNumber: BQ24026DRCRG4; Manufacturer: Texas Instruments; Lead Acid: N; Li-Ion: Y; SubFamily: Battery Charge Management; Vin(Min)(V): 4.5; DatasheetVersion: SLUS549E; PackageVersion: revL, Sep-2011; PackageReference: DRC10-2400X1650TP; PackageDescription: 10-Pin Plastic Small Outline No-Lead, 3 x 3 x 1 mm Body, 0.5 mm Pitch, Exposed Pad; Supplier 1: Digi-Key; Supplier Part Number 1: BQ24026DRCRG4-ND; Supplier Part Number 3: 595-BQ24026DRCRG4; Eco-Plan: Green (RoHS & no Sb/Br); Li-Polymer: Y; NiCd: N; NiMH: N; Over Voltage Protection: N; Mounting Technology: Surface Mount; ComponentLink1Description: Datasheet; ComponentLink1URL: http://www.ti.com/general/docs/lit/getliterature.tsp?genericPartNumber=BQ24026&fileType=pdf
footprint DRC10-2400X1650TP (SON, 10-Leads, Body 3x3mm, Pitch 0.5mm, Thermal Pad 2.4x1.65mm, TI Recommended)
pins: 1 AC (power) "AC charge input voltage", 2 USB (power) "USB charge input voltage", 3 STAT1 (oc) "Charge status output 1 (open-drain)", 4 STAT2 (oc) "Charge status output 2 (open-drain)", 5 VSS (power) "Ground input", 6 ISET1 (in) "Charge current set point for AC input and precharge ande taper set point for both AC and USB", 7 ISET2 (in) "Charge current set point for USB port (high=500 mA, low=100 mA, hi-z = disable USB charge)", 8 ~{TE} (in) "Timer enable input (active low)", 9 TS (in) "Temperature sense input", 10 OUT (power) "Charge current output", 11 EP (power) "There is an internal electrical connection between the exposed thermal pad and VSS pin of the device. The exposed thermal pad must be connected to the same potential as the VSS pin on the printed circuit board. Do not use (See Datasheet)"

## BQ24027DRCR
designator U?
bqTINY-II Dual Input USB / AC Adpater 1-Cell Li-Ion Charger with Charge Enable & AC Present, No Taper, 4.5 V, -40 to 85 degC, 10-pin SON (DRC), Green (RoHS & no Sb/Br); PartNumber: BQ24027DRCR; Manufacturer: Texas Instruments; Lead Acid: N; Li-Ion: Y; SubFamily: Battery Charge Management; Vin(Min)(V): 4.5; DatasheetVersion: SLUS549E; PackageVersion: revL, Sep-2011; PackageReference: DRC10-2400X1650TP; PackageDescription: 10-Pin Plastic Small Outline No-Lead, 3 x 3 x 1 mm Body, 0.5 mm Pitch, Exposed Pad; Supplier 1: Digi-Key; Supplier Part Number 1: 296-19866-2-ND; Supplier Part Number 3: 296-19866-6-ND; Eco-Plan: Green (RoHS & no Sb/Br); Li-Polymer: Y; NiCd: N; NiMH: N; Over Voltage Protection: N; Mounting Technology: Surface Mount; ComponentLink1Description: Datasheet; ComponentLink1URL: http://www.ti.com/general/docs/lit/getliterature.tsp?genericPartNumber=BQ24027&fileType=pdf
footprint DRC10-2400X1650TP (SON, 10-Leads, Body 3x3mm, Pitch 0.5mm, Thermal Pad 2.4x1.65mm, TI Recommended)
pins: 1 AC (power) "AC charge input voltage", 2 USB (power) "USB charge input voltage", 3 STAT1 (oc) "Charge status output 1 (open-drain)", 4 STAT2 (oc) "Charge status output 2 (open-drain)", 5 VSS (power) "Ground input", 6 ISET1 (in) "Charge current set point for AC input and precharge and taper set point for both AC and USB", 7 ISET2 (in) "Charge current set point for USB port (high=500 mA, low=100 mA, hi-z = disable USB charge)", 8 ~{PG} (oc) "powergood status output (active low)", 9 ~{CE} (in) "Charge enable input (active low)", 10 OUT (power) "Charge current output", 11 EP (power) "There is an internal electrical connection between the exposed thermal pad and VSS pin of the device. The exposed thermal pad must be connected to the same potential as the VSS pin on the printed circuit board. Do not use (See Datasheet)"

## BQ24027DRCRG4
designator U?
bqTINY-II Dual Input USB / AC Adpater 1-Cell Li-Ion Charger with Charge Enable & AC Present, No Taper, 4.5 V, -40 to 85 degC, 10-pin SON (DRC), Green (RoHS & no Sb/Br); PartNumber: BQ24027DRCRG4; Manufacturer: Texas Instruments; Lead Acid: N; Li-Ion: Y; SubFamily: Battery Charge Management; Vin(Min)(V): 4.5; DatasheetVersion: SLUS549E; PackageVersion: revL, Sep-2011; PackageReference: DRC10-2400X1650TP; PackageDescription: 10-Pin Plastic Small Outline No-Lead, 3 x 3 x 1 mm Body, 0.5 mm Pitch, Exposed Pad; Supplier 1: Digi-Key; Supplier Part Number 1: BQ24027DRCRG4-ND; Supplier Part Number 3: 595-BQ24027DRCRG4; Eco-Plan: Green (RoHS & no Sb/Br); Li-Polymer: Y; NiCd: N; NiMH: N; Over Voltage Protection: N; Mounting Technology: Surface Mount; ComponentLink1Description: Datasheet; ComponentLink1URL: http://www.ti.com/general/docs/lit/getliterature.tsp?genericPartNumber=BQ24027&fileType=pdf
footprint DRC10-2400X1650TP (SON, 10-Leads, Body 3x3mm, Pitch 0.5mm, Thermal Pad 2.4x1.65mm, TI Recommended)
pins: 1 AC (power) "AC charge input voltage", 2 USB (power) "USB charge input voltage", 3 STAT1 (oc) "Charge status output 1 (open-drain)", 4 STAT2 (oc) "Charge status output 2 (open-drain)", 5 VSS (power) "Ground input", 6 ISET1 (in) "Charge current set point for AC input and precharge and taper set point for both AC and USB", 7 ISET2 (in) "Charge current set point for USB port (high=500 mA, low=100 mA, hi-z = disable USB charge)", 8 ~{PG} (oc) "powergood status output (active low)", 9 ~{CE} (in) "Charge enable input (active low)", 10 OUT (power) "Charge current output", 11 EP (power) "There is an internal electrical connection between the exposed thermal pad and VSS pin of the device. The exposed thermal pad must be connected to the same potential as the VSS pin on the printed circuit board. Do not use (See Datasheet)"